# Altium schematic symbol library Sensor.SchLib: 1 symbol
Pins are listed as number, name and electrical type; pins without a type are passive.

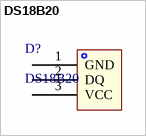
[diagram p0: symbol DS18B20]

## DS18B20
designator D?
DS18B20 TO-92-2.5mm / JLCPCB Part #C4945083
footprint DS18B20
pins: 1 GND, 2 DQ, 3 VCC